# Altium schematic symbol library SchemLib.SchLib: 4 symbols
Pins are listed as number, name and electrical type; pins without a type are passive.

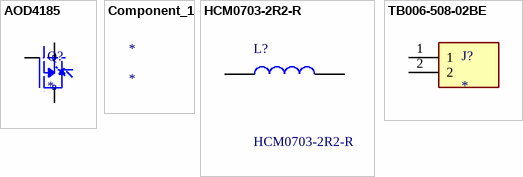
[diagram p0: symbols AOD4185 to TB006-508-02BE]

## AOD4185
designator Q?
P-Channel 40V 40A (Tc) 2.5W (Ta), 62.5W (Tc) Surface Mount TO-252, (D-Pak); MF: Alpha &; MP: AOD4185; SnapEDA_Link: https://www.snapeda.com/parts/AOD4185/Alpha+%2526+Omega+Semiconductor+Inc./view-part/?ref=snap; Package: TO-252 Alpha &amp; Omega Semiconductor; Value: *; Check_prices: https://www.snapeda.com/parts/AOD4185/Alpha+%2526+Omega+Semiconductor+Inc./view-part/?ref=eda
footprint TO252
pins: 1 G, 2 S, 3 D

## Component_1
designator *

## HCM0703-2R2-R
designator L?
High current carrying capacity  Low core losses  Magnetically shielded, low EMI  Frequency range up to 5 MHz  Inductance range from 0.15 uH to 33 uH  Current range from 1.8 A to 52 A  7.4 mm x 6.8 mm footprint surface mount package in a 3.0 mm height  Iron powder core material; Manufacturer_Name: Eaton; Geometry.Height: 3mm; Manufacturer_Part_Number: HCM0703-2R2-R; Mouser Part Number: 704-HCM0703-2R2-R; Mouser Price/Stock: https://www.mouser.co.uk/ProductDetail/Coiltronics-Eaton/HCM0703-2R2-R?qs=NDsWxPllFnNWXZwyaLK1bg%3D%3D; Arrow Part Number: HCM0703-2R2-R; Arrow Price/Stock: null?region=nac; Datasheet Link: https://www.mouser.fr/datasheet/2/87/eaton_hcm0703_high_current_power_inductors_data_sh-1608742.pdf
footprint INDPM7166X300N
pins: 1, 2

## TB006-508-02BE
designator J?
2~24 Poles, Screw Type, Horizontal, 5.08 Pitch, 26~14 (AWG), Terminal Block Connector; MF: Same Sky; MP: TB006-508-02BE; SnapEDA_Link: https://www.snapeda.com/parts/TB006-508-02BE/Same+Sky/view-part/?ref=snap; Package: None; Value: *; Check_prices: https://www.snapeda.com/parts/TB006-508-02BE/Same+Sky/view-part/?ref=eda; Supplier 1: Arrow Electronics; Supplier Part Number 1: TB006-508-02BE
footprint CUI_TB006-508-02BE
pins: 1, 2